# Altium schematic symbol library 2450BM15A0002.Schlib: 1 symbol
Pins are listed as number, name and electrical type; pins without a type are passive.

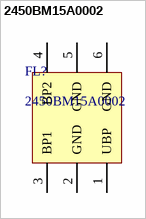
[diagram p0: symbol 2450BM15A0002]

## 2450BM15A0002
designator FL?
pins: 1 UBP, 2 GND, 3 BP1, 4 BP2, 5 GND, 6 GND